# EAGLE library part 737-553 (library con-wago_737)
Serie 737, Dreistock-Klemmenleiste für Leiterplatten Lötstifte für Stockwerk 2 um das 1/2 Rastermaß versetzt / Series 737, Triple-deck PCB terminal strip solder pins for deck 2 staggered by half the pin spacing Polzahl / Pole No.: 3 Rastermaß / Pitch: 7.5 mm Bemessungsspannung / Rated Voltage: 630 V Nennstrom / Nominal Current: 21 A Leiterquerschnitt / Conductor Size: 0.08 - 2.5 mm² Anschlusstechnik / Connection Technology: CAGE CLAMP® Lötstiftlänge: / Solder Pin Length: 4 mm Leitereinführung (zur Platine) / Conductor entry angle (to PCB): 45 ° Farbe / Color: grau / gray Stand: 01.01.2012. Die jeweils aktuellen Daten zu diesem Artikel finden Sie in unserem Produktkatalog, den Sie unter www.wago.com einsehen können. As of: 01/01/2012. Please find the newest data for this article in our product catalogue, which can be viewed under www.wago.com.
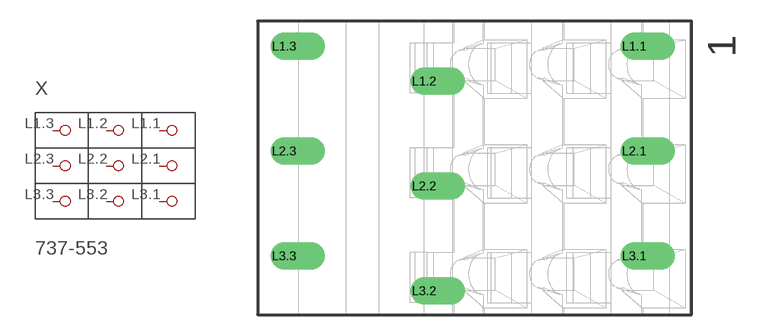
[diagram p24: symbol with the pads of P-737-553; footprint P-737-553]

Designator prefix X

## 737-553  [P-737-553]
L1.1  P1.1
L1.2  P1.2
L1.3  P1.3
L2.1  P2.1
L2.2  P2.2
L2.3  P2.3
L3.1  P3.1
L3.2  P3.2
L3.3  P3.3

## Footprint P-737-553 (pad centres in mm)
drill 1.3 offset: L1.1 11.4,8.7; L1.2 -3.6,6.2; L1.3 -13.6,8.7; L2.1 11.4,1.2; L2.2 -3.6,-1.3; L2.3 -13.6,1.2; L3.1 11.4,-6.3; L3.2 -3.6,-8.8; L3.3 -13.6,-6.3